# EAGLE library part STM32F415RGT6 (library Lynx components)
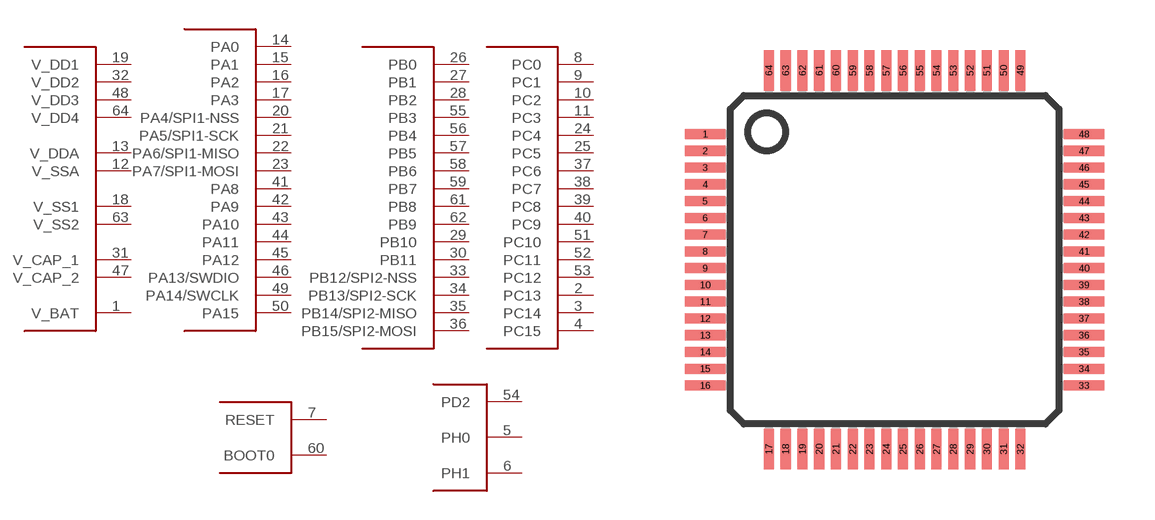
[diagram p0: symbol with the pads of LQFP-64; footprint LQFP-64]

Designator prefix -; gates POWER=STM32F415RGT6_POWER PORT_C=STM32F415RGT6_PC PORT_A=STM32F415RGT6_PA PORT_B=STM32F415RTG6_PB FUNCTIONS=RESET G$1=STM32F415RTG6_MISC

## STM32F415RGT6  [LQFP-64]
1  POWER:V_BAT
2  PORT_C:PC13
3  PORT_C:PC14
4  PORT_C:PC15
5  G$1:PH0
6  G$1:PH1
7  FUNCTIONS:RESET
8  PORT_C:PC0
9  PORT_C:PC1
10  PORT_C:PC2
11  PORT_C:PC3
12  POWER:V_SSA
13  POWER:V_DDA
14  PORT_A:PA0
15  PORT_A:PA1
16  PORT_A:PA2
17  PORT_A:PA3
18  POWER:V_SS1
19  POWER:V_DD1
20  PORT_A:PA4/SPI1-NSS
21  PORT_A:PA5/SPI1-SCK
22  PORT_A:PA6/SPI1-MISO
23  PORT_A:PA7/SPI1-MOSI
24  PORT_C:PC4
25  PORT_C:PC5
26  PORT_B:PB0
27  PORT_B:PB1
28  PORT_B:PB2
29  PORT_B:PB10
30  PORT_B:PB11
31  POWER:V_CAP_1
32  POWER:V_DD2
33  PORT_B:PB12/SPI2-NSS
34  PORT_B:PB13/SPI2-SCK
35  PORT_B:PB14/SPI2-MISO
36  PORT_B:PB15/SPI2-MOSI
37  PORT_C:PC6
38  PORT_C:PC7
39  PORT_C:PC8
40  PORT_C:PC9
41  PORT_A:PA8
42  PORT_A:PA9
43  PORT_A:PA10
44  PORT_A:PA11
45  PORT_A:PA12
46  PORT_A:PA13/SWDIO
47  POWER:V_CAP_2
48  POWER:V_DD3
49  PORT_A:PA14/SWCLK
50  PORT_A:PA15
51  PORT_C:PC10
52  PORT_C:PC11
53  PORT_C:PC12
54  G$1:PD2
55  PORT_B:PB3
56  PORT_B:PB4
57  PORT_B:PB5
58  PORT_B:PB6
59  PORT_B:PB7
60  FUNCTIONS:BOOT0
61  PORT_B:PB8
62  PORT_B:PB9
63  POWER:V_SS2
64  POWER:V_DD4

## Footprint LQFP-64 (pad centres in mm)
smd 1.2 x 0.3: 1 -5.65,3.75; 2 -5.65,3.25; 3 -5.65,2.75; 4 -5.65,2.25; 5 -5.65,1.75; 6 -5.65,1.25; 7 -5.65,0.75; 8 -5.65,0.25; 9 -5.65,-0.25; 10 -5.65,-0.75; 11 -5.65,-1.25; 12 -5.65,-1.75; 13 -5.65,-2.25; 14 -5.65,-2.75; 15 -5.65,-3.25; 16 -5.65,-3.75; 33 5.65,-3.75; 34 5.65,-3.25; 35 5.65,-2.75; 36 5.65,-2.25; 37 5.65,-1.75; 38 5.65,-1.25; 39 5.65,-0.75; 40 5.65,-0.25; 41 5.65,0.25; 42 5.65,0.75; 43 5.65,1.25; 44 5.65,1.75; 45 5.65,2.25; 46 5.65,2.75; 47 5.65,3.25; 48 5.65,3.75
smd 0.3 x 1.2: 17 -3.75,-5.65; 18 -3.25,-5.65; 19 -2.75,-5.65; 20 -2.25,-5.65; 21 -1.75,-5.65; 22 -1.25,-5.65; 23 -0.75,-5.65; 24 -0.25,-5.65; 25 0.25,-5.65; 26 0.75,-5.65; 27 1.25,-5.65; 28 1.75,-5.65; 29 2.25,-5.65; 30 2.75,-5.65; 31 3.25,-5.65; 32 3.75,-5.65; 49 3.75,5.65; 50 3.25,5.65; 51 2.75,5.65; 52 2.25,5.65; 53 1.75,5.65; 54 1.25,5.65; 55 0.75,5.65; 56 0.25,5.65; 57 -0.25,5.65; 58 -0.75,5.65; 59 -1.25,5.65; 60 -1.75,5.65; 61 -2.25,5.65; 62 -2.75,5.65; 63 -3.25,5.65; 64 -3.75,5.65